# EAGLE library part XFMR_TOROID_10VA (library wheat)
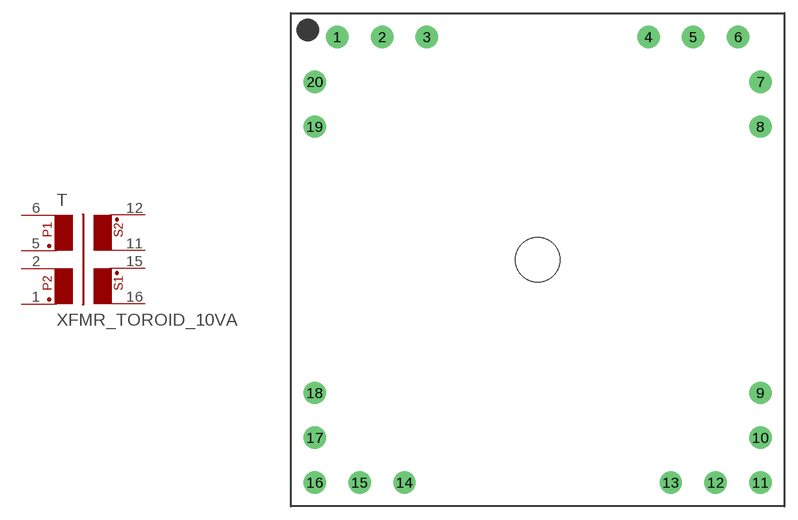
[diagram p159: symbol with the pads of XFMR_TOROID_10VA; footprint XFMR_TOROID_10VA]

Designator prefix T

## XFMR_TOROID_10VA  [XFMR_TOROID_10VA]
1  1  pas
2  2  pas
5  3  pas
6  4  pas
11  6  pas
12  5  pas
15  7  pas
16  8  pas

## Footprint XFMR_TOROID_10VA (pad centres in mm)
drill 1.27 pad 2.54: 1 -22.708,25.248; 2 -17.628,25.248; 3 -12.548,25.248; 4 12.548,25.248; 5 17.628,25.248; 6 22.708,25.248; 7 25.248,20.168; 8 25.248,15.088; 9 25.248,-15.088; 10 25.248,-20.168; 11 25.248,-25.248; 12 20.168,-25.248; 13 15.088,-25.248; 14 -15.088,-25.248; 15 -20.168,-25.248; 16 -25.248,-25.248; 17 -25.248,-20.168; 18 -25.248,-15.088; 19 -25.248,15.088; 20 -25.248,20.168
hole 5.08 at 0,0